# EAGLE library part K-HEADER-MALE-1X14- (library elpp-tht-v1.2)
PIN HEADER
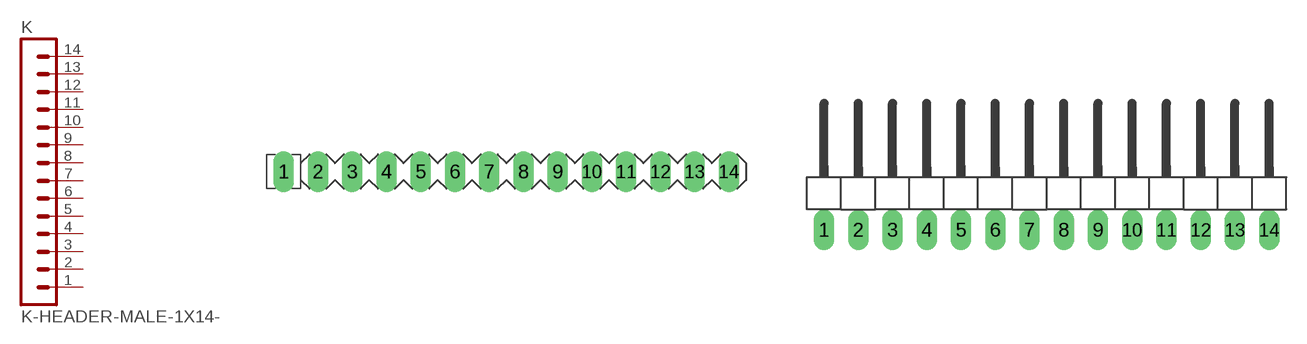
[diagram p15: symbol with the pads of ELPP-SIL-M-14-WAY; footprints ELPP-SIL-M-14-WAY, ELPP-SIL-M-14-WAY-90DEG]

Designator prefix K

## K-HEADER-MALE-1X14-V (FARNELL: 1098454; RS: 6812058)  [ELPP-SIL-M-14-WAY]
1  1  pas
2  2  pas
3  3  pas
4  4  pas
5  5  pas
6  6  pas
7  7  pas
8  8  pas
9  9  pas
10  10  pas
11  11  pas
12  12  pas
13  13  pas
14  14  pas

## K-HEADER-MALE-1X14-H (FARNELL: 1098476; RS: 6812060)  [ELPP-SIL-M-14-WAY-90DEG]
Pads as for ELPP-SIL-M-14-WAY

## Footprint ELPP-SIL-M-14-WAY (pad centres in mm)
PIN HEADER, 14-way
drill 1 long: 1 -5.08,0; 2 -2.54,0; 3 0,0; 4 2.54,0; 5 5.08,0; 6 7.62,0; 7 10.16,0; 8 12.7,0; 9 15.24,0; 10 17.78,0; 11 20.32,0; 12 22.86,0; 13 25.4,0; 14 27.94,0

## Footprint ELPP-SIL-M-14-WAY-90DEG (pad centres in mm)
PIN HEADER, 1 row, 90 degrees
drill 1 long: 1 -16.51,0; 2 -13.97,0; 3 -11.43,0; 4 -8.89,0; 5 -6.35,0; 6 -3.81,0; 7 -1.27,0; 8 1.27,0; 9 3.81,0; 10 6.35,0; 11 8.89,0; 12 11.43,0; 13 13.97,0; 14 16.51,0